# EAGLE library part DS-3658 (library me210)
DS-3658 Power Driver
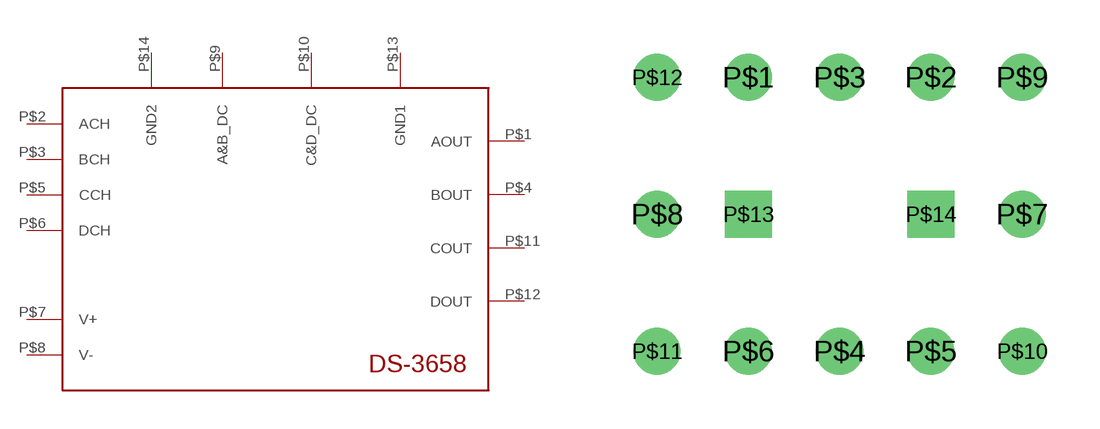
[diagram p0: symbol with the pads of DS-3658; footprint DS-3658]

Designator prefix DS

## DS-3658  [DS-3658]
P$1  AOUT
P$2  ACH
P$3  BCH
P$4  BOUT
P$5  CCH
P$6  DCH
P$7  V+
P$8  V-
P$9  A&B_DC
P$10  C&D_DC
P$11  COUT
P$12  DOUT
P$13  GND1
P$14  GND2

## Footprint DS-3658 (pad centres in mm)
Power driver for part 1 of lab 3.
drill 0.8: P$1 -2.54,3.81; P$2 2.54,3.81; P$3 0,3.81; P$4 0,-3.81; P$5 2.54,-3.81; P$6 -2.54,-3.81; P$7 5.08,0; P$8 -5.08,0; P$9 5.08,3.81; P$10 5.08,-3.81; P$11 -5.08,-3.81; P$12 -5.08,3.81
drill 0.8 square: P$13 -2.54,0; P$14 2.54,0